# Altium integrated library Analog Devices RF IF Timing ICs and Clocks.IntLib: 168 symbols (part 14 of 18)
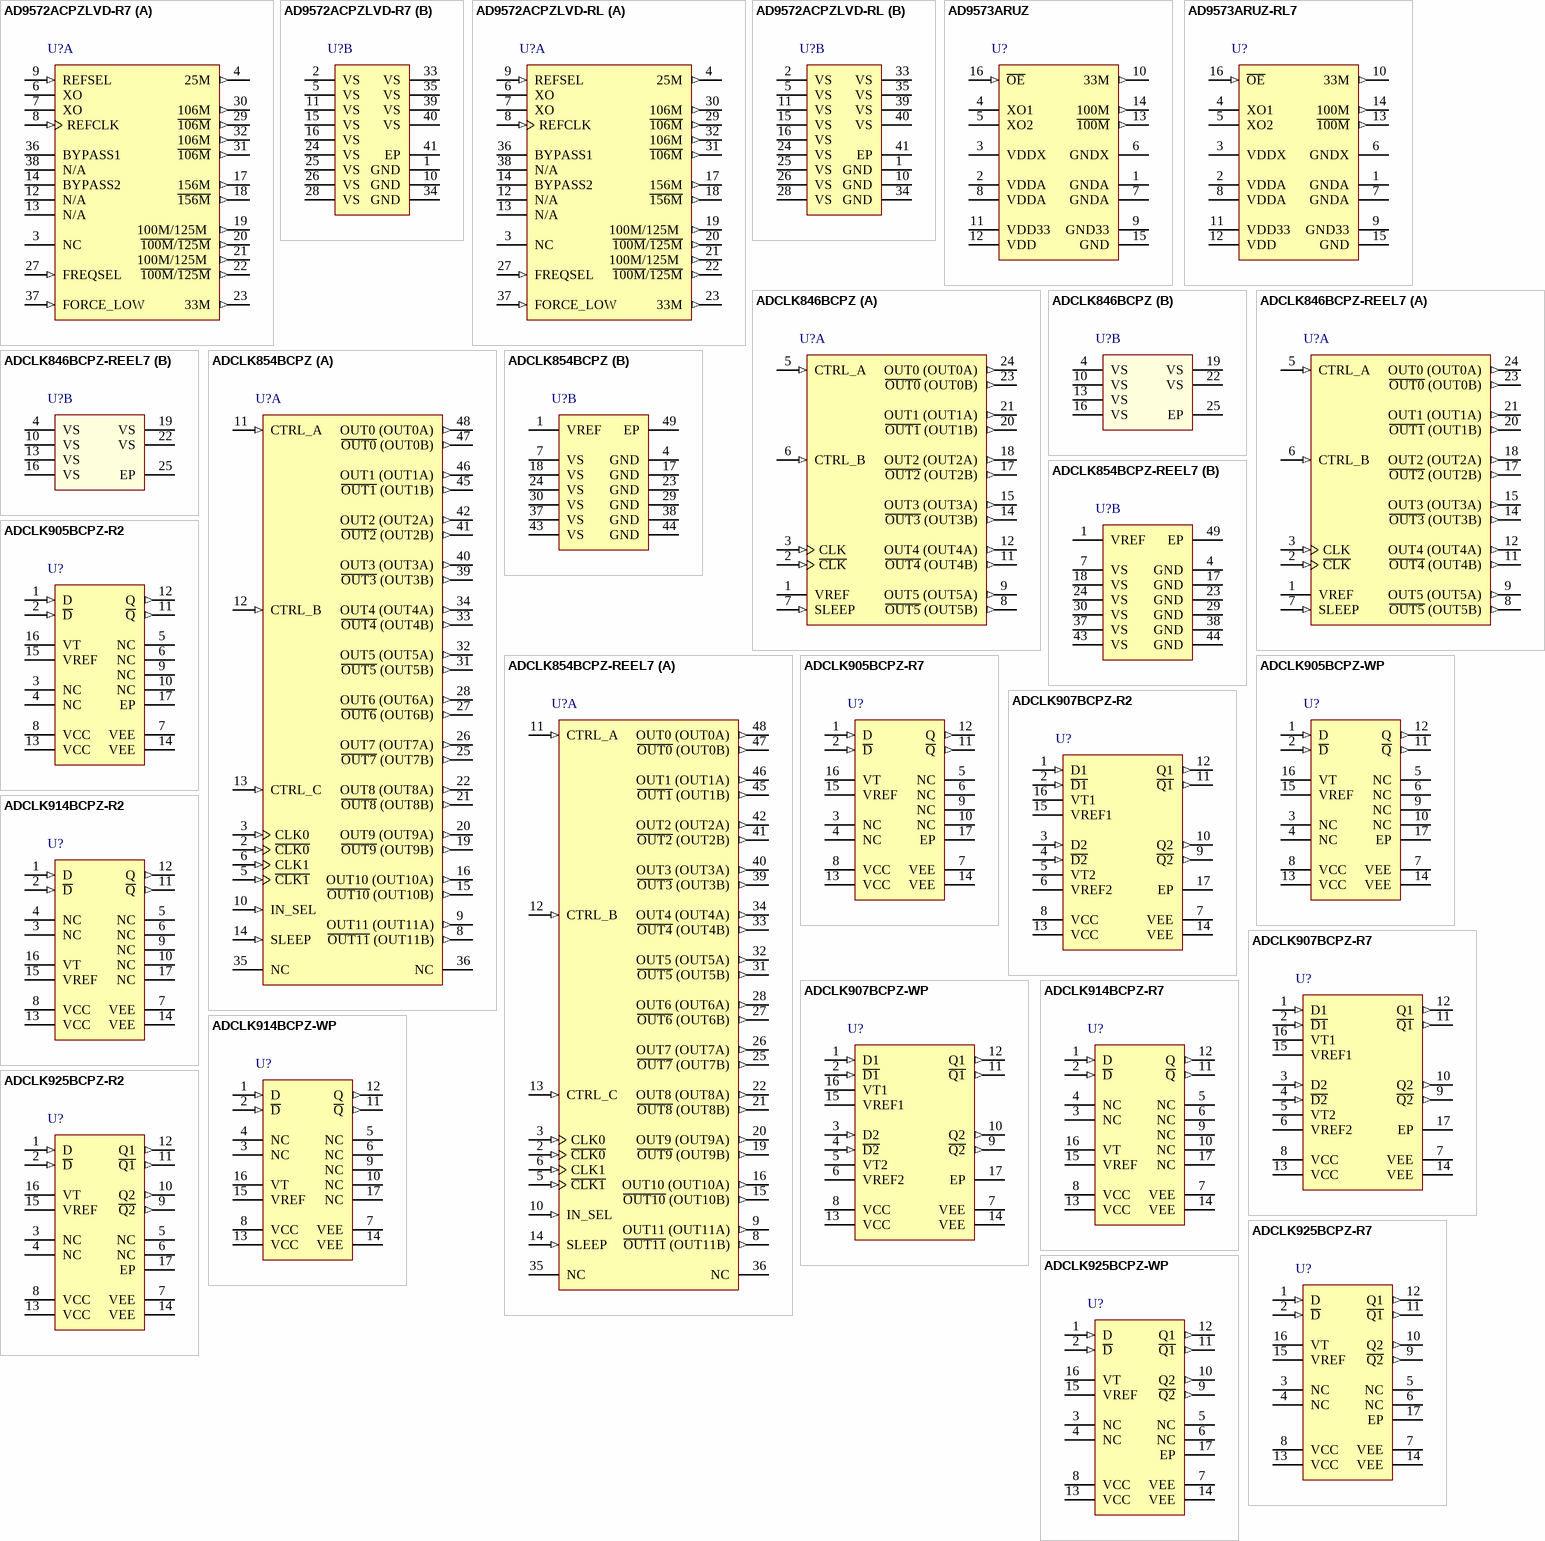
[diagram p28: symbols AD9572ACPZLVD-R7 to ADCLK925BCPZ-WP]

## AD9573ARUZ-RL7
designator U?
PCI-Express Clock Generator IC, PLL Core, Dividers, Two Outputs, RU-16, Pb-Free, 1000 Reel; +Supply Voltage (V): 3.3; Inputs: 1; Outputs: 2; On-Chip VCO or DCO: Yes; Max f-out (MHz): 100; Output Logic: LVCMOS; LVDS; DatasheetVersion: Rev. 0; PackageVersion: Nov-2002; PackageReference: RU-16; PackageDescription: 16-Lead Thin Shrink Small Outline Package [TSSOP]; Product Description: PCI-EXPRESS CLOCK GENERATOR IC, PLL CORE, DIVIDERS, TWO OUTPUTS; Dividers: 2; Code_JEDEC: MO-153AB; ComponentLink1Description: Manufacturer URL; ComponentLink1URL: www.analog.com; ComponentLink2Description: Datasheet; ComponentLink2URL: http://www.analog.com/static/imported-files/data_sheets/AD9573.pdf; ComponentLink3Description: Package Specification; ComponentLink3URL: http://www.analog.com/static/imported-files/packages/36244347913743854010197452789RU16.pdf
footprint ADI-RU-16_N (TSOP, 16-Leads, Body 5x4.4mm, Pitch 0.65mm, IPC Medium Density)
footprint ADI-RU-16_L (TSOP, 16-Leads, Body 5x4.4mm, Pitch 0.65mm, IPC High Density)
footprint ADI-RU-16_M (TSOP, 16-Leads, Body 5x4.4mm, Pitch 0.65mm, IPC Low Density)
pins: 1 GNDA (power) "Analog Ground.", 2 VDDA (power) "Analog Power Supply (3.3 V).", 3 VDDX (power) "Crystal Oscillator Power Supply.", 4 XO1 "External 25 MHz Crystal.", 5 XO2 "External 25 MHz Crystal.", 6 GNDX (power) "Crystal Oscillator Ground", 7 GNDA (power) "Analog Ground.", 8 VDDA (power) "Analog Power Supply (3.3 V).", 9 GND33 (power) "Ground for LVCMOS Output.", 10 33M (out) "LVCMOS Output at 33.33 MHz.", 11 VDD33 (power) "Power Supply for LVCMOS Output.", 12 VDD (power) "Power Supply for LVDS Output.", 13 ~{100M} (out) "Complementary LVDS Output at 100 MHz.", 14 100M (out) "LVDS Output at 100 MHz.", 15 GND (power) "Ground for LVDS Output.", 16 ~{OE} (in) "Output Enable (Active Low). Places both outputs in a high impedance state when high. This pin has a 50 K ohm internal pull-down resistor."

## ADCLK846BCPZ
designator U?
1.8 V, 6 LVDS/12 CMOS Outputs Low Power Clock Fanout Buffer, CP-24-2, Pb-Free, 490 Tray; Product Description: LVDS clock fanout buffer; +Supply Voltage (V): 1.8; Inputs: 1; Outputs: 6; On-Chip VCO or DCO: No; Max f-out (MHz): 1200; Output Logic: CMOS; LVDS; DatasheetVersion: Rev. B; PackageVersion: Jan-2005; PackageReference: CP-24-2; PackageDescription: 24-Lead Lead Frame Chip Scale Package [LFCSP_VQ]; Code_JEDEC: MO-220-VGGD-2; ComponentLink1Description: Manufacturer URL; ComponentLink1URL: www.analog.com; ComponentLink2Description: Datasheet; ComponentLink2URL: http://www.analog.com/static/imported-files/data_sheets/ADCLK846.pdf; ComponentLink3Description: Package Specification; ComponentLink3URL: http://www.analog.com/static/imported-files/packages/588305704543880784658541CP_24_2.pdf
footprint ADI-CP-24-2_N (QFN, 24-Leads, Body 4x4mm, Pitch 0.5mm, Thermal Pad 2.3x2.3mm, IPC Medium Density)
footprint ADI-CP-24-2_L (QFN, 24-Leads, Body 4x4mm, Pitch 0.5mm, Thermal Pad 2.3x2.3mm, IPC High Density)
footprint ADI-CP-24-2_M (QFN, 24-Leads, Body 4x4mm, Pitch 0.5mm, Thermal Pad 2.3x2.3mm, IPC Low Density)
part A pins: 1 VREF (power) "Reference Voltage.", 2 ~{CLK} (in) "Clock Input (Negative).", 3 CLK (in) "Clock Input (Positive).", 5 CTRL_A (in) "CMOS Input Control for Output 1 to Output 0. (0: LVDS, 1: CMOS.)", 6 CTRL_B (in) "CMOS Input Control for Output 5 to Output 2. (0: LVDS, 1: CMOS.)", 7 SLEEP (in) "CMOS Input for Sleep Mode. (0: normal operation, 1: sleep.)", 8 ~{OUT5} (OUT5B) (out) "Complementary Side of Differential LVDS Output 5, or CMOS Output 5 on Channel B.", 9 OUT5 (OUT5A) (out) "True Side of Differential LVDS Output 5, or CMOS Output 5 on Channel A.", 11 ~{OUT4} (OUT4B) (out) "Complementary Side of Differential LVDS Output 4, or CMOS Output 4 on Channel B.", 12 OUT4 (OUT4A) (out) "True Side of Differential LVDS Output 4, or CMOS Output 4 on Channel A.", 14 ~{OUT3} (OUT3B) (out) "Complementary Side of Differential LVDS Output 3, or CMOS Output 3 on Channel B.", 15 OUT3 (OUT3A) (out) "True Side of Differential LVDS Output 3, or CMOS Output 3 on Channel A.", 17 ~{OUT2} (OUT2B) (out) "Complementary Side of Differential LVDS Output 2, or CMOS Output 2 on Channel B.", 18 OUT2 (OUT2A) (out) "True Side of Differential LVDS Output 2, or CMOS Output 2 on Channel A.", 20 ~{OUT1} (OUT1B) (out) "Complementary Side of Differential LVDS Output 1, or CMOS Output 1 on Channel B.", 21 OUT1 (OUT1A) (out) "True Side of Differential LVDS Output 1, or CMOS Output 1 on Channel A.", 23 ~{OUT0} (OUT0B) (out) "Complementary Side of Differential LVDS Output 0, or CMOS Output 0 on Channel B.", 24 OUT0 (OUT0A) (out) "True Side of Differential LVDS Output 0, or CMOS Output 0 on Channel A."
part B pins: 4 VS (power) "Supply Voltage.", 10 VS (power) "Supply Voltage.", 13 VS (power) "Supply Voltage.", 16 VS (power) "Supply Voltage.", 19 VS (power) "Supply Voltage.", 22 VS (power) "Supply Voltage.", 25 EP (power) "Exposed Paddle. The exposed paddle must be connected to ground."

## ADCLK846BCPZ-REEL7
designator U?
1.8 V, 6 LVDS/12 CMOS Outputs Low Power Clock Fanout Buffer, CP-24-2, Pb-Free, 1500 Reel; Product Description: LVDS clock fanout buffer; +Supply Voltage (V): 1.8; Inputs: 1; Outputs: 6; On-Chip VCO or DCO: No; Max f-out (MHz): 1200; Output Logic: CMOS; LVDS; DatasheetVersion: Rev. B; PackageVersion: Jan-2005; PackageReference: CP-24-2; PackageDescription: 24-Lead Lead Frame Chip Scale Package [LFCSP_VQ]; Code_JEDEC: MO-220-VGGD-2; ComponentLink1Description: Manufacturer URL; ComponentLink1URL: www.analog.com; ComponentLink2Description: Datasheet; ComponentLink2URL: http://www.analog.com/static/imported-files/data_sheets/ADCLK846.pdf; ComponentLink3Description: Package Specification; ComponentLink3URL: http://www.analog.com/static/imported-files/packages/588305704543880784658541CP_24_2.pdf
footprint ADI-CP-24-2_N (QFN, 24-Leads, Body 4x4mm, Pitch 0.5mm, Thermal Pad 2.3x2.3mm, IPC Medium Density)
footprint ADI-CP-24-2_L (QFN, 24-Leads, Body 4x4mm, Pitch 0.5mm, Thermal Pad 2.3x2.3mm, IPC High Density)
footprint ADI-CP-24-2_M (QFN, 24-Leads, Body 4x4mm, Pitch 0.5mm, Thermal Pad 2.3x2.3mm, IPC Low Density)
part A pins: 1 VREF (power) "Reference Voltage.", 2 ~{CLK} (in) "Clock Input (Negative).", 3 CLK (in) "Clock Input (Positive).", 5 CTRL_A (in) "CMOS Input Control for Output 1 to Output 0. (0: LVDS, 1: CMOS.)", 6 CTRL_B (in) "CMOS Input Control for Output 5 to Output 2. (0: LVDS, 1: CMOS.)", 7 SLEEP (in) "CMOS Input for Sleep Mode. (0: normal operation, 1: sleep.)", 8 ~{OUT5} (OUT5B) (out) "Complementary Side of Differential LVDS Output 5, or CMOS Output 5 on Channel B.", 9 OUT5 (OUT5A) (out) "True Side of Differential LVDS Output 5, or CMOS Output 5 on Channel A.", 11 ~{OUT4} (OUT4B) (out) "Complementary Side of Differential LVDS Output 4, or CMOS Output 4 on Channel B.", 12 OUT4 (OUT4A) (out) "True Side of Differential LVDS Output 4, or CMOS Output 4 on Channel A.", 14 ~{OUT3} (OUT3B) (out) "Complementary Side of Differential LVDS Output 3, or CMOS Output 3 on Channel B.", 15 OUT3 (OUT3A) (out) "True Side of Differential LVDS Output 3, or CMOS Output 3 on Channel A.", 17 ~{OUT2} (OUT2B) (out) "Complementary Side of Differential LVDS Output 2, or CMOS Output 2 on Channel B.", 18 OUT2 (OUT2A) (out) "True Side of Differential LVDS Output 2, or CMOS Output 2 on Channel A.", 20 ~{OUT1} (OUT1B) (out) "Complementary Side of Differential LVDS Output 1, or CMOS Output 1 on Channel B.", 21 OUT1 (OUT1A) (out) "True Side of Differential LVDS Output 1, or CMOS Output 1 on Channel A.", 23 ~{OUT0} (OUT0B) (out) "Complementary Side of Differential LVDS Output 0, or CMOS Output 0 on Channel B.", 24 OUT0 (OUT0A) (out) "True Side of Differential LVDS Output 0, or CMOS Output 0 on Channel A."
part B pins: 4 VS (power) "Supply Voltage.", 10 VS (power) "Supply Voltage.", 13 VS (power) "Supply Voltage.", 16 VS (power) "Supply Voltage.", 19 VS (power) "Supply Voltage.", 22 VS (power) "Supply Voltage.", 25 EP (power) "Exposed Paddle. The exposed paddle must be connected to ground."

## ADCLK854BCPZ
designator U?
1.8 V, 12-LVDS/24-CMOS Output, Low Power Clock Fanout Buffer, CP-48-6, Pb-Free, 260 Tray; Product Description: LVDS clock fanout buffer; +Supply Voltage (V): 1.8; Inputs: 2; Outputs: 12; On-Chip VCO or DCO: No; Max f-out (MHz): 1200; Output Logic: CMOS; LVDS; DatasheetVersion: Rev. 0; PackageVersion: 080508-A; PackageReference: CP-48-6; PackageDescription: 48-Lead Lead Frame Chip Scale Package [LFCSP_VQ]; Code_JEDEC: MO-220-VKKD-2; ComponentLink1Description: Manufacturer URL; ComponentLink1URL: www.analog.com; ComponentLink2Description: Datasheet; ComponentLink2URL: http://www.analog.com/static/imported-files/data_sheets/ADCLK854.pdf; ComponentLink3Description: Package Specification; ComponentLink3URL: http://www.analog.com/static/imported-files/packages/PKG_PDF/LFCSP(CP)/CP_48_6.pdf
footprint ADI-CP-48-6_N (QFN, 48-Leads, Body 7x7mm, Pitch 0.5mm, Thermal Pad 2.8x2.8mm, IPC Medium Density)
footprint ADI-CP-48-6_L (QFN, 48-Leads, Body 7x7mm, Pitch 0.5mm, Thermal Pad 2.8x2.8mm, IPC High Density)
footprint ADI-CP-48-6_M (QFN, 48-Leads, Body 7x7mm, Pitch 0.5mm, Thermal Pad 2.8x2.8mm, IPC Low Density)
part A pins: 2 ~{CLK0} (in) "Input (Negative) 0.", 3 CLK0 (in) "Input (Positive) 0.", 5 ~{CLK1} (in) "Input (Negative) 1.", 6 CLK1 (in) "Input (Positive) 1.", 8 ~{OUT11} (OUT11B) (out) "Complementary Side of Differential LVDS Output 11, or CMOS Output 11 on Channel B.", 9 OUT11 (OUT11A) (out) "True Side of Differential LVDS Output 11, or CMOS Output 11 on Channel A.", 10 IN_SEL (in) "Input Select. (0 = CLK0, C\L\K\0\; 1 = CLK1, C\L\K\1\). CMOS logic input with 200 K ohm pull-down resistor.", 11 CTRL_A (in) "Control for Output 3 to Output 0 (0 = LVDS, 1 = CMOS). CMOS logic input with 200 K ohm pull-down resistor.", 12 CTRL_B (in) "Control for Output 7 to Output 4 (0 = LVDS, 1 = CMOS). CMOS logic input with 200 K ohm pull-down resistor.", 13 CTRL_C (in) "Control for Output 11 to Output 8 (0 = LVDS, 1 = CMOS). CMOS logic input with 200 K ohm pull-down resistor.", 14 SLEEP (in) "Sleep Mode Control (0 = normal operation, 1 = sleep). CMOS logic input with 200 K ohm pull down resistor.", 15 ~{OUT10} (OUT10B) (out) "Complementary Side of Differential LVDS Output 10, or CMOS Output 10 on Channel B.", 16 OUT10 (OUT10A) (out) "True Side of Differential LVDS Output 10, or CMOS Output 10 on Channel A.", 19 ~{OUT9} (OUT9B) (out) "Complementary Side of Differential LVDS Output 9, or CMOS Output 9 on Channel B.", 20 OUT9 (OUT9A) (out) "True Side of Differential LVDS Output 9, or CMOS Output 9 on Channel A.", 21 ~{OUT8} (OUT8B) (out) "Complementary Side of Differential LVDS Output 8, or CMOS Output 8 on Channel B.", 22 OUT8 (OUT8A) (out) "True Side of Differential LVDS Output 8, or CMOS Output 8 on Channel A.", 25 ~{OUT7} (OUT7B) (out) "Complementary Side of Differential LVDS Output 7, or CMOS Output 7 on Channel B.", 26 OUT7 (OUT7A) (out) "True Side of Differential LVDS Output 7, or CMOS Output 7 on Channel A.", 27 ~{OUT6} (OUT6B) (out) "Complementary Side of Differential LVDS Output 6, or CMOS Output 6 on Channel B.", 28 OUT6 (OUT6A) (out) "True Side of Differential LVDS Output 6, or CMOS Output 6 on Channel A", 31 ~{OUT5} (OUT5B) (out) "Complementary Side of Differential LVDS Output 5, or CMOS Output 5 on Channel B.", 32 OUT5 (OUT5A) (out) "True Side of Differential LVDS Output 5, or CMOS Output 5 on Channel A.", 33 ~{OUT4} (OUT4B) (out) "Complementary Side of Differential LVDS Output 4, or CMOS Output 4 on Channel B.", 34 OUT4 (OUT4A) (out) "True Side of Differential LVDS Output 4, or CMOS Output 4 on Channel A.", 35 NC "No Connect.", 36 NC "No Connect.", 39 ~{OUT3} (OUT3B) (out) "Complementary Side of Differential LVDS Output 3, or CMOS Output 3 on Channel B.", 40 OUT3 (OUT3A) (out) "True Side of Differential LVDS Output 3, or CMOS Output 3 on Channel A.", 41 ~{OUT2} (OUT2B) (out) "Complementary Side of Differential LVDS Output 2, or CMOS Output 2 on Channel B.", 42 OUT2 (OUT2A) (out) "True Side of Differential LVDS Output 2, or CMOS Output 2 on Channel A.", 45 ~{OUT1} (OUT1B) (out) "Complementary Side of Differential LVDS Output 1, or CMOS Output 1 on Channel B.", 46 OUT1 (OUT1A) (out) "True Side of Differential LVDS Output 1, or CMOS Output 1 on Channel A.", 47 ~{OUT0} (OUT0B) (out) "Complementary Side of Differential LVDS Output 0, or CMOS Output 0 on Channel B.", 48 OUT0 (OUT0A) (out) "True Side of Differential LVDS Output 0, or CMOS Output 0 on Channel A."
part B pins: 1 VREF (power) "Reference Voltage.", 4 GND (power) "Ground Pin.", 7 VS (power) "Supply Voltage.", 17 GND (power) "Ground Pin.", 18 VS (power) "Supply Voltage.", 23 GND (power) "Ground Pin.", 24 VS (power) "Supply Voltage.", 29 GND (power) "Ground Pin.", 30 VS (power) "Supply Voltage.", 37 VS (power) "Supply Voltage.", 38 GND (power) "Ground Pin.", 43 VS (power) "Supply Voltage.", 44 GND (power) "Ground Pin.", 49 EP (power) "Exposed Paddle. The exposed paddle must be connected to GND."

## ADCLK854BCPZ-REEL7
designator U?
1.8 V, 12-LVDS/24-CMOS Output, Low Power Clock Fanout Buffer, CP-48-6, Pb-Free, 750 Reel; Product Description: LVDS clock fanout buffer; +Supply Voltage (V): 1.8; Inputs: 2; Outputs: 12; On-Chip VCO or DCO: No; Max f-out (MHz): 1200; Output Logic: CMOS; LVDS; DatasheetVersion: Rev. 0; PackageVersion: 080508-A; PackageReference: CP-48-6; PackageDescription: 48-Lead Lead Frame Chip Scale Package [LFCSP_VQ]; Code_JEDEC: MO-220-VKKD-2; ComponentLink1Description: Manufacturer URL; ComponentLink1URL: www.analog.com; ComponentLink2Description: Datasheet; ComponentLink2URL: http://www.analog.com/static/imported-files/data_sheets/ADCLK854.pdf; ComponentLink3Description: Package Specification; ComponentLink3URL: http://www.analog.com/static/imported-files/packages/PKG_PDF/LFCSP(CP)/CP_48_6.pdf
footprint ADI-CP-48-6_N (QFN, 48-Leads, Body 7x7mm, Pitch 0.5mm, Thermal Pad 2.8x2.8mm, IPC Medium Density)
footprint ADI-CP-48-6_L (QFN, 48-Leads, Body 7x7mm, Pitch 0.5mm, Thermal Pad 2.8x2.8mm, IPC High Density)
footprint ADI-CP-48-6_M (QFN, 48-Leads, Body 7x7mm, Pitch 0.5mm, Thermal Pad 2.8x2.8mm, IPC Low Density)
part A pins: 2 ~{CLK0} (in) "Input (Negative) 0.", 3 CLK0 (in) "Input (Positive) 0.", 5 ~{CLK1} (in) "Input (Negative) 1.", 6 CLK1 (in) "Input (Positive) 1.", 8 ~{OUT11} (OUT11B) (out) "Complementary Side of Differential LVDS Output 11, or CMOS Output 11 on Channel B.", 9 OUT11 (OUT11A) (out) "True Side of Differential LVDS Output 11, or CMOS Output 11 on Channel A.", 10 IN_SEL (in) "Input Select. (0 = CLK0, C\L\K\0\; 1 = CLK1, C\L\K\1\). CMOS logic input with 200 K ohm pull-down resistor.", 11 CTRL_A (in) "Control for Output 3 to Output 0 (0 = LVDS, 1 = CMOS). CMOS logic input with 200 K ohm pull-down resistor.", 12 CTRL_B (in) "Control for Output 7 to Output 4 (0 = LVDS, 1 = CMOS). CMOS logic input with 200 K ohm pull-down resistor.", 13 CTRL_C (in) "Control for Output 11 to Output 8 (0 = LVDS, 1 = CMOS). CMOS logic input with 200 K ohm pull-down resistor.", 14 SLEEP (in) "Sleep Mode Control (0 = normal operation, 1 = sleep). CMOS logic input with 200 K ohm pull down resistor.", 15 ~{OUT10} (OUT10B) (out) "Complementary Side of Differential LVDS Output 10, or CMOS Output 10 on Channel B.", 16 OUT10 (OUT10A) (out) "True Side of Differential LVDS Output 10, or CMOS Output 10 on Channel A.", 19 ~{OUT9} (OUT9B) (out) "Complementary Side of Differential LVDS Output 9, or CMOS Output 9 on Channel B.", 20 OUT9 (OUT9A) (out) "True Side of Differential LVDS Output 9, or CMOS Output 9 on Channel A.", 21 ~{OUT8} (OUT8B) (out) "Complementary Side of Differential LVDS Output 8, or CMOS Output 8 on Channel B.", 22 OUT8 (OUT8A) (out) "True Side of Differential LVDS Output 8, or CMOS Output 8 on Channel A.", 25 ~{OUT7} (OUT7B) (out) "Complementary Side of Differential LVDS Output 7, or CMOS Output 7 on Channel B.", 26 OUT7 (OUT7A) (out) "True Side of Differential LVDS Output 7, or CMOS Output 7 on Channel A.", 27 ~{OUT6} (OUT6B) (out) "Complementary Side of Differential LVDS Output 6, or CMOS Output 6 on Channel B.", 28 OUT6 (OUT6A) (out) "True Side of Differential LVDS Output 6, or CMOS Output 6 on Channel A", 31 ~{OUT5} (OUT5B) (out) "Complementary Side of Differential LVDS Output 5, or CMOS Output 5 on Channel B.", 32 OUT5 (OUT5A) (out) "True Side of Differential LVDS Output 5, or CMOS Output 5 on Channel A.", 33 ~{OUT4} (OUT4B) (out) "Complementary Side of Differential LVDS Output 4, or CMOS Output 4 on Channel B.", 34 OUT4 (OUT4A) (out) "True Side of Differential LVDS Output 4, or CMOS Output 4 on Channel A.", 35 NC "No Connect.", 36 NC "No Connect.", 39 ~{OUT3} (OUT3B) (out) "Complementary Side of Differential LVDS Output 3, or CMOS Output 3 on Channel B.", 40 OUT3 (OUT3A) (out) "True Side of Differential LVDS Output 3, or CMOS Output 3 on Channel A.", 41 ~{OUT2} (OUT2B) (out) "Complementary Side of Differential LVDS Output 2, or CMOS Output 2 on Channel B.", 42 OUT2 (OUT2A) (out) "True Side of Differential LVDS Output 2, or CMOS Output 2 on Channel A.", 45 ~{OUT1} (OUT1B) (out) "Complementary Side of Differential LVDS Output 1, or CMOS Output 1 on Channel B.", 46 OUT1 (OUT1A) (out) "True Side of Differential LVDS Output 1, or CMOS Output 1 on Channel A.", 47 ~{OUT0} (OUT0B) (out) "Complementary Side of Differential LVDS Output 0, or CMOS Output 0 on Channel B.", 48 OUT0 (OUT0A) (out) "True Side of Differential LVDS Output 0, or CMOS Output 0 on Channel A."
part B pins: 1 VREF (power) "Reference Voltage.", 4 GND (power) "Ground Pin.", 7 VS (power) "Supply Voltage.", 17 GND (power) "Ground Pin.", 18 VS (power) "Supply Voltage.", 23 GND (power) "Ground Pin.", 24 VS (power) "Supply Voltage.", 29 GND (power) "Ground Pin.", 30 VS (power) "Supply Voltage.", 37 VS (power) "Supply Voltage.", 38 GND (power) "Ground Pin.", 43 VS (power) "Supply Voltage.", 44 GND (power) "Ground Pin.", 49 EP (power) "Exposed Paddle. The exposed paddle must be connected to GND."

## ADCLK905BCPZ-R2
designator U?
Ultrafast SiGe ECL Clock/Data Buffers, CP-16-3, Pb-Free, 250 Reel; Product Description: Clock Buffer; +Supply Voltage (V): 3.3; Inputs: 1; On-Chip VCO or DCO: No; Max f-out (MHz): 6000; Output Logic: ECL; LVPECL; PECL; DatasheetVersion: Rev. 0; PackageVersion: Jan-2005; PackageReference: CP-16-3; PackageDescription: 16-Lead Lead Frame Chip Scale Package [LFCSP_VQ]; Outputs: 1; Code_JEDEC: MO-220-VEED-2; ComponentLink1Description: Manufacturer URL; ComponentLink1URL: www.analog.com; ComponentLink2Description: Datasheet; ComponentLink2URL: http://www.analog.com/static/imported-files/data_sheets/ADCLK905_907_925.pdf; ComponentLink3Description: Package Specification; ComponentLink3URL: http://www.analog.com/static/imported-files/packages/PKG_PDF/LFCSP(CP)/CP_16_3.pdf
footprint ADI-CP-16-3_N (QFN, 16-Leads, Body 3x3mm, Pitch 0.5mm, Thermal Pad 1.5x1.5mm, IPC Medium Density)
footprint ADI-CP-16-3_L (QFN, 16-Leads, Body 3x3mm, Pitch 0.5mm, Thermal Pad 1.5x1.5mm, IPC High Density)
footprint ADI-CP-16-3_M (QFN, 16-Leads, Body 3x3mm, Pitch 0.5mm, Thermal Pad 1.5x1.5mm, IPC Low Density)
pins: 1 D (in) "Noninverting Input.", 2 ~{D} (in) "Inverting Input.", 3 NC "No Connect. No physical connection to the die.", 4 NC "No Connect. No physical connection to the die.", 5 NC "No Connect. No physical connection to the die.", 6 NC "No Connect. No physical connection to the die.", 7 VEE (power) "Negative Supply Voltage.", 8 VCC (power) "Positive Supply Voltage.", 9 NC "No Connect. No physical connection to the die.", 10 NC "No Connect. No physical connection to the die.", 11 ~{Q} (out) "Inverting Output.", 12 Q (out) "Noninverting Output.", 13 VCC (power) "Positive Supply Voltage.", 14 VEE (power) "Negative Supply Voltage.", 15 VREF (power) "Reference Voltage. Reference voltage for biasing ac-coupled inputs.", 16 VT "Center Tap. Center tap of 100  ohm input resistor.", 17 EP "No Connect. The metallic back surface of the package is not electrically connected to any part of the circuit. It can be left floating for optimal electrical isolation between the package handle and the substrate of the die. [see datasheet]"

## ADCLK905BCPZ-R7
designator U?
Ultrafast SiGe ECL Clock/Data Buffers, CP-16-3, Pb-Free, 1500 Reel; Product Description: Clock Buffer; +Supply Voltage (V): 3.3; Inputs: 1; On-Chip VCO or DCO: No; Max f-out (MHz): 6000; Output Logic: ECL; LVPECL; PECL; DatasheetVersion: Rev. 0; PackageVersion: Jan-2005; PackageReference: CP-16-3; PackageDescription: 16-Lead Lead Frame Chip Scale Package [LFCSP_VQ]; Outputs: 1; Code_JEDEC: MO-220-VEED-2; ComponentLink1Description: Manufacturer URL; ComponentLink1URL: www.analog.com; ComponentLink2Description: Datasheet; ComponentLink2URL: http://www.analog.com/static/imported-files/data_sheets/ADCLK905_907_925.pdf; ComponentLink3Description: Package Specification; ComponentLink3URL: http://www.analog.com/static/imported-files/packages/PKG_PDF/LFCSP(CP)/CP_16_3.pdf
footprint ADI-CP-16-3_N (QFN, 16-Leads, Body 3x3mm, Pitch 0.5mm, Thermal Pad 1.5x1.5mm, IPC Medium Density)
footprint ADI-CP-16-3_L (QFN, 16-Leads, Body 3x3mm, Pitch 0.5mm, Thermal Pad 1.5x1.5mm, IPC High Density)
footprint ADI-CP-16-3_M (QFN, 16-Leads, Body 3x3mm, Pitch 0.5mm, Thermal Pad 1.5x1.5mm, IPC Low Density)
pins: 1 D (in) "Noninverting Input.", 2 ~{D} (in) "Inverting Input.", 3 NC "No Connect. No physical connection to the die.", 4 NC "No Connect. No physical connection to the die.", 5 NC "No Connect. No physical connection to the die.", 6 NC "No Connect. No physical connection to the die.", 7 VEE (power) "Negative Supply Voltage.", 8 VCC (power) "Positive Supply Voltage.", 9 NC "No Connect. No physical connection to the die.", 10 NC "No Connect. No physical connection to the die.", 11 ~{Q} (out) "Inverting Output.", 12 Q (out) "Noninverting Output.", 13 VCC (power) "Positive Supply Voltage.", 14 VEE (power) "Negative Supply Voltage.", 15 VREF (power) "Reference Voltage. Reference voltage for biasing ac-coupled inputs.", 16 VT "Center Tap. Center tap of 100  ohm input resistor.", 17 EP "No Connect. The metallic back surface of the package is not electrically connected to any part of the circuit. It can be left floating for optimal electrical isolation between the package handle and the substrate of the die. [see datasheet]"

## ADCLK905BCPZ-WP
designator U?
Ultrafast SiGe ECL Clock/Data Buffers, CP-16-3, Pb-Free, 50 Tray; Product Description: Clock Buffer; +Supply Voltage (V): 3.3; Inputs: 1; On-Chip VCO or DCO: No; Max f-out (MHz): 6000; Output Logic: ECL; LVPECL; PECL; DatasheetVersion: Rev. 0; PackageVersion: Jan-2005; PackageReference: CP-16-3; PackageDescription: 16-Lead Lead Frame Chip Scale Package [LFCSP_VQ]; Outputs: 1; Code_JEDEC: MO-220-VEED-2; ComponentLink1Description: Manufacturer URL; ComponentLink1URL: www.analog.com; ComponentLink2Description: Datasheet; ComponentLink2URL: http://www.analog.com/static/imported-files/data_sheets/ADCLK905_907_925.pdf; ComponentLink3Description: Package Specification; ComponentLink3URL: http://www.analog.com/static/imported-files/packages/PKG_PDF/LFCSP(CP)/CP_16_3.pdf
footprint ADI-CP-16-3_N (QFN, 16-Leads, Body 3x3mm, Pitch 0.5mm, Thermal Pad 1.5x1.5mm, IPC Medium Density)
footprint ADI-CP-16-3_L (QFN, 16-Leads, Body 3x3mm, Pitch 0.5mm, Thermal Pad 1.5x1.5mm, IPC High Density)
footprint ADI-CP-16-3_M (QFN, 16-Leads, Body 3x3mm, Pitch 0.5mm, Thermal Pad 1.5x1.5mm, IPC Low Density)
pins: 1 D (in) "Noninverting Input.", 2 ~{D} (in) "Inverting Input.", 3 NC "No Connect. No physical connection to the die.", 4 NC "No Connect. No physical connection to the die.", 5 NC "No Connect. No physical connection to the die.", 6 NC "No Connect. No physical connection to the die.", 7 VEE (power) "Negative Supply Voltage.", 8 VCC (power) "Positive Supply Voltage.", 9 NC "No Connect. No physical connection to the die.", 10 NC "No Connect. No physical connection to the die.", 11 ~{Q} (out) "Inverting Output.", 12 Q (out) "Noninverting Output.", 13 VCC (power) "Positive Supply Voltage.", 14 VEE (power) "Negative Supply Voltage.", 15 VREF (power) "Reference Voltage. Reference voltage for biasing ac-coupled inputs.", 16 VT "Center Tap. Center tap of 100  ohm input resistor.", 17 EP "No Connect. The metallic back surface of the package is not electrically connected to any part of the circuit. It can be left floating for optimal electrical isolation between the package handle and the substrate of the die. [see datasheet]"

## ADCLK907BCPZ-R2
designator U?
Ultrafast SiGe ECL Clock/Data Buffers, CP-16-3, Pb-Free, 250 Reel; Product Description: Clock Buffer; +Supply Voltage (V): 3.3; Inputs: 2; On-Chip VCO or DCO: No; Max f-out (MHz): 6000; Output Logic: ECL; LVPECL; PECL; DatasheetVersion: Rev. 0; PackageVersion: Jan-2005; PackageReference: CP-16-3; PackageDescription: 16-Lead Lead Frame Chip Scale Package [LFCSP_VQ]; Outputs: 2; Code_JEDEC: MO-220-VEED-2; ComponentLink1Description: Manufacturer URL; ComponentLink1URL: www.analog.com; ComponentLink2Description: Datasheet; ComponentLink2URL: http://www.analog.com/static/imported-files/data_sheets/ADCLK905_907_925.pdf; ComponentLink3Description: Package Specification; ComponentLink3URL: http://www.analog.com/static/imported-files/packages/PKG_PDF/LFCSP(CP)/CP_16_3.pdf
footprint ADI-CP-16-3_N (QFN, 16-Leads, Body 3x3mm, Pitch 0.5mm, Thermal Pad 1.5x1.5mm, IPC Medium Density)
footprint ADI-CP-16-3_L (QFN, 16-Leads, Body 3x3mm, Pitch 0.5mm, Thermal Pad 1.5x1.5mm, IPC High Density)
footprint ADI-CP-16-3_M (QFN, 16-Leads, Body 3x3mm, Pitch 0.5mm, Thermal Pad 1.5x1.5mm, IPC Low Density)
pins: 1 D1 (in) "Noninverting Input 1.", 2 ~{D1} (in) "Inverting Input 1.", 3 D2 (in) "Noninverting Input 2.", 4 ~{D2} (in) "Inverting Input 2.", 5 VT2 "Center Tap 2. Center tap of 100  ohm input resistor, Channel 2.", 6 VREF2 (power) "Reference Voltage 2. Reference voltage for biasing ac-coupled inputs, Channel 2.", 7 VEE (power) "Negative Supply Voltage.", 8 VCC (power) "Positive Supply Voltage. Pin 8 and Pin 13 are not strapped internally.", 9 ~{Q2} (out) "Inverting Output 2.", 10 Q2 (out) "Noninverting Output 2.", 11 ~{Q1} (out) "Inverting Output 1.", 12 Q1 (out) "Noninverting Output 1.", 13 VCC (power) "Positive Supply Voltage. Pin 8 and Pin 13 are not strapped internally.", 14 VEE (power) "Negative Supply Voltage.", 15 VREF1 (power) "Reference Voltage 1. Reference voltage for biasing ac-coupled inputs, Channel 1.", 16 VT1 "Center Tap 1. Center tap of 100  ohm input resistor, Channel 1.", 17 EP "No Connect. The metallic back surface of the package is not electrically connected to any part of the circuit. It can be left floating for optimal electrical isolation between the package handle and the substrate of the die. [see datasheet]"

## ADCLK907BCPZ-R7
designator U?
Ultrafast SiGe ECL Clock/Data Buffers, CP-16-3, Pb-Free, 1500 Reel; Product Description: Clock Buffer; +Supply Voltage (V): 3.3; Inputs: 2; On-Chip VCO or DCO: No; Max f-out (MHz): 6000; Output Logic: ECL; LVPECL; PECL; DatasheetVersion: Rev. 0; PackageVersion: Jan-2005; PackageReference: CP-16-3; PackageDescription: 16-Lead Lead Frame Chip Scale Package [LFCSP_VQ]; Outputs: 2; Code_JEDEC: MO-220-VEED-2; ComponentLink1Description: Manufacturer URL; ComponentLink1URL: www.analog.com; ComponentLink2Description: Datasheet; ComponentLink2URL: http://www.analog.com/static/imported-files/data_sheets/ADCLK905_907_925.pdf; ComponentLink3Description: Package Specification; ComponentLink3URL: http://www.analog.com/static/imported-files/packages/PKG_PDF/LFCSP(CP)/CP_16_3.pdf
footprint ADI-CP-16-3_N (QFN, 16-Leads, Body 3x3mm, Pitch 0.5mm, Thermal Pad 1.5x1.5mm, IPC Medium Density)
footprint ADI-CP-16-3_L (QFN, 16-Leads, Body 3x3mm, Pitch 0.5mm, Thermal Pad 1.5x1.5mm, IPC High Density)
footprint ADI-CP-16-3_M (QFN, 16-Leads, Body 3x3mm, Pitch 0.5mm, Thermal Pad 1.5x1.5mm, IPC Low Density)
pins: 1 D1 (in) "Noninverting Input 1.", 2 ~{D1} (in) "Inverting Input 1.", 3 D2 (in) "Noninverting Input 2.", 4 ~{D2} (in) "Inverting Input 2.", 5 VT2 "Center Tap 2. Center tap of 100  ohm input resistor, Channel 2.", 6 VREF2 (power) "Reference Voltage 2. Reference voltage for biasing ac-coupled inputs, Channel 2.", 7 VEE (power) "Negative Supply Voltage.", 8 VCC (power) "Positive Supply Voltage. Pin 8 and Pin 13 are not strapped internally.", 9 ~{Q2} (out) "Inverting Output 2.", 10 Q2 (out) "Noninverting Output 2.", 11 ~{Q1} (out) "Inverting Output 1.", 12 Q1 (out) "Noninverting Output 1.", 13 VCC (power) "Positive Supply Voltage. Pin 8 and Pin 13 are not strapped internally.", 14 VEE (power) "Negative Supply Voltage.", 15 VREF1 (power) "Reference Voltage 1. Reference voltage for biasing ac-coupled inputs, Channel 1.", 16 VT1 "Center Tap 1. Center tap of 100  ohm input resistor, Channel 1.", 17 EP "No Connect. The metallic back surface of the package is not electrically connected to any part of the circuit. It can be left floating for optimal electrical isolation between the package handle and the substrate of the die. [see datasheet]"

## ADCLK907BCPZ-WP
designator U?
Ultrafast SiGe ECL Clock/Data Buffers, CP-16-3, Pb-Free, 50 Tray; Product Description: Clock Buffer; +Supply Voltage (V): 3.3; Inputs: 2; On-Chip VCO or DCO: No; Max f-out (MHz): 6000; Output Logic: ECL; LVPECL; PECL; DatasheetVersion: Rev. 0; PackageVersion: Jan-2005; PackageReference: CP-16-3; PackageDescription: 16-Lead Lead Frame Chip Scale Package [LFCSP_VQ]; Outputs: 2; Code_JEDEC: MO-220-VEED-2; ComponentLink1Description: Manufacturer URL; ComponentLink1URL: www.analog.com; ComponentLink2Description: Datasheet; ComponentLink2URL: http://www.analog.com/static/imported-files/data_sheets/ADCLK905_907_925.pdf; ComponentLink3Description: Package Specification; ComponentLink3URL: http://www.analog.com/static/imported-files/packages/PKG_PDF/LFCSP(CP)/CP_16_3.pdf
footprint ADI-CP-16-3_N (QFN, 16-Leads, Body 3x3mm, Pitch 0.5mm, Thermal Pad 1.5x1.5mm, IPC Medium Density)
footprint ADI-CP-16-3_L (QFN, 16-Leads, Body 3x3mm, Pitch 0.5mm, Thermal Pad 1.5x1.5mm, IPC High Density)
footprint ADI-CP-16-3_M (QFN, 16-Leads, Body 3x3mm, Pitch 0.5mm, Thermal Pad 1.5x1.5mm, IPC Low Density)
pins: 1 D1 (in) "Noninverting Input 1.", 2 ~{D1} (in) "Inverting Input 1.", 3 D2 (in) "Noninverting Input 2.", 4 ~{D2} (in) "Inverting Input 2.", 5 VT2 "Center Tap 2. Center tap of 100  ohm input resistor, Channel 2.", 6 VREF2 (power) "Reference Voltage 2. Reference voltage for biasing ac-coupled inputs, Channel 2.", 7 VEE (power) "Negative Supply Voltage.", 8 VCC (power) "Positive Supply Voltage. Pin 8 and Pin 13 are not strapped internally.", 9 ~{Q2} (out) "Inverting Output 2.", 10 Q2 (out) "Noninverting Output 2.", 11 ~{Q1} (out) "Inverting Output 1.", 12 Q1 (out) "Noninverting Output 1.", 13 VCC (power) "Positive Supply Voltage. Pin 8 and Pin 13 are not strapped internally.", 14 VEE (power) "Negative Supply Voltage.", 15 VREF1 (power) "Reference Voltage 1. Reference voltage for biasing ac-coupled inputs, Channel 1.", 16 VT1 "Center Tap 1. Center tap of 100  ohm input resistor, Channel 1.", 17 EP "No Connect. The metallic back surface of the package is not electrically connected to any part of the circuit. It can be left floating for optimal electrical isolation between the package handle and the substrate of the die. [see datasheet]"

## ADCLK914BCPZ-R2
designator U?
Ultrafast, SiGe, Open-Collector HVDS Clock/Data Buffer, CP-16-3, Pb-Free, 250 Reel; Inputs: 1; On-Chip VCO or DCO: No; DatasheetVersion: Rev. A; PackageVersion: Jan-2005; PackageReference: CP-16-3; PackageDescription: 16-Lead Lead Frame Chip Scale Package [LFCSP_VQ]; Outputs: 1; Output Logic: HVDS; Code_JEDEC: MO-220-VEED-2; ComponentLink1Description: Manufacturer URL; ComponentLink1URL: www.analog.com; ComponentLink2Description: Datasheet; ComponentLink2URL: http://www.analog.com/static/imported-files/data_sheets/ADCLK914.pdf; ComponentLink3Description: Package Specification; ComponentLink3URL: http://www.analog.com/static/imported-files/packages/PKG_PDF/LFCSP(CP)/CP_16_3.pdf
footprint ADI-CP-16-3_N (QFN, 16-Leads, Body 3x3mm, Pitch 0.5mm, Thermal Pad 1.5x1.5mm, IPC Medium Density)
footprint ADI-CP-16-3_L (QFN, 16-Leads, Body 3x3mm, Pitch 0.5mm, Thermal Pad 1.5x1.5mm, IPC High Density)
footprint ADI-CP-16-3_M (QFN, 16-Leads, Body 3x3mm, Pitch 0.5mm, Thermal Pad 1.5x1.5mm, IPC Low Density)
pins: 1 D (in) "Noninverting Input.", 2 ~{D} (in) "Inverting Input.", 3 NC "No Connect. No physical connection to the die.", 4 NC "No Connect. No physical connection to the die.", 5 NC "No Connect. No physical connection to the die.", 6 NC "No Connect. No physical connection to the die.", 7 VEE (power) "Negative Supply Voltage.", 8 VCC (power) "Positive Supply Voltage.", 9 NC "No Connect. No physical connection to the die.", 10 NC "No Connect. No physical connection to the die.", 11 ~{Q} (out) "Inverting Output.", 12 Q (out) "Noninverting Output.", 13 VCC (power) "Positive Supply Voltage.", 14 VEE (power) "Negative Supply Voltage.", 15 VREF (power) "Reference Voltage. Reference voltage for biasing ac-coupled inputs.", 16 VT "Center Tap. Center tap of 100  ohm input resistor.", 17 NC "No Connect. The metallic back surface of the package is not electrically connected to any part of the circuit. It can be left floating for optimal electrical isolation between the package handle and the substrate of the die. It can also be soldered to gr"

## ADCLK914BCPZ-R7
designator U?
Ultrafast, SiGe, Open-Collector HVDS Clock/Data Buffer, CP-16-3, Pb-Free, 1500 Reel; Inputs: 1; On-Chip VCO or DCO: No; DatasheetVersion: Rev. A; PackageVersion: Jan-2005; PackageReference: CP-16-3; PackageDescription: 16-Lead Lead Frame Chip Scale Package [LFCSP_VQ]; Outputs: 1; Output Logic: HVDS; Code_JEDEC: MO-220-VEED-2; ComponentLink1Description: Manufacturer URL; ComponentLink1URL: www.analog.com; ComponentLink2Description: Datasheet; ComponentLink2URL: http://www.analog.com/static/imported-files/data_sheets/ADCLK914.pdf; ComponentLink3Description: Package Specification; ComponentLink3URL: http://www.analog.com/static/imported-files/packages/PKG_PDF/LFCSP(CP)/CP_16_3.pdf
footprint ADI-CP-16-3_N (QFN, 16-Leads, Body 3x3mm, Pitch 0.5mm, Thermal Pad 1.5x1.5mm, IPC Medium Density)
footprint ADI-CP-16-3_L (QFN, 16-Leads, Body 3x3mm, Pitch 0.5mm, Thermal Pad 1.5x1.5mm, IPC High Density)
footprint ADI-CP-16-3_M (QFN, 16-Leads, Body 3x3mm, Pitch 0.5mm, Thermal Pad 1.5x1.5mm, IPC Low Density)
pins: 1 D (in) "Noninverting Input.", 2 ~{D} (in) "Inverting Input.", 3 NC "No Connect. No physical connection to the die.", 4 NC "No Connect. No physical connection to the die.", 5 NC "No Connect. No physical connection to the die.", 6 NC "No Connect. No physical connection to the die.", 7 VEE (power) "Negative Supply Voltage.", 8 VCC (power) "Positive Supply Voltage.", 9 NC "No Connect. No physical connection to the die.", 10 NC "No Connect. No physical connection to the die.", 11 ~{Q} (out) "Inverting Output.", 12 Q (out) "Noninverting Output.", 13 VCC (power) "Positive Supply Voltage.", 14 VEE (power) "Negative Supply Voltage.", 15 VREF (power) "Reference Voltage. Reference voltage for biasing ac-coupled inputs.", 16 VT "Center Tap. Center tap of 100  ohm input resistor.", 17 NC "No Connect. The metallic back surface of the package is not electrically connected to any part of the circuit. It can be left floating for optimal electrical isolation between the package handle and the substrate of the die. It can also be soldered to gr"

## ADCLK914BCPZ-WP
designator U?
Ultrafast, SiGe, Open-Collector HVDS Clock/Data Buffer, CP-16-3, Pb-Free, 50 Tray; Inputs: 1; On-Chip VCO or DCO: No; DatasheetVersion: Rev. A; PackageVersion: Jan-2005; PackageReference: CP-16-3; PackageDescription: 16-Lead Lead Frame Chip Scale Package [LFCSP_VQ]; Outputs: 1; Output Logic: HVDS; Code_JEDEC: MO-220-VEED-2; ComponentLink1Description: Manufacturer URL; ComponentLink1URL: www.analog.com; ComponentLink2Description: Datasheet; ComponentLink2URL: http://www.analog.com/static/imported-files/data_sheets/ADCLK914.pdf; ComponentLink3Description: Package Specification; ComponentLink3URL: http://www.analog.com/static/imported-files/packages/PKG_PDF/LFCSP(CP)/CP_16_3.pdf
footprint ADI-CP-16-3_N (QFN, 16-Leads, Body 3x3mm, Pitch 0.5mm, Thermal Pad 1.5x1.5mm, IPC Medium Density)
footprint ADI-CP-16-3_L (QFN, 16-Leads, Body 3x3mm, Pitch 0.5mm, Thermal Pad 1.5x1.5mm, IPC High Density)
footprint ADI-CP-16-3_M (QFN, 16-Leads, Body 3x3mm, Pitch 0.5mm, Thermal Pad 1.5x1.5mm, IPC Low Density)
pins: 1 D (in) "Noninverting Input.", 2 ~{D} (in) "Inverting Input.", 3 NC "No Connect. No physical connection to the die.", 4 NC "No Connect. No physical connection to the die.", 5 NC "No Connect. No physical connection to the die.", 6 NC "No Connect. No physical connection to the die.", 7 VEE (power) "Negative Supply Voltage.", 8 VCC (power) "Positive Supply Voltage.", 9 NC "No Connect. No physical connection to the die.", 10 NC "No Connect. No physical connection to the die.", 11 ~{Q} (out) "Inverting Output.", 12 Q (out) "Noninverting Output.", 13 VCC (power) "Positive Supply Voltage.", 14 VEE (power) "Negative Supply Voltage.", 15 VREF (power) "Reference Voltage. Reference voltage for biasing ac-coupled inputs.", 16 VT "Center Tap. Center tap of 100  ohm input resistor.", 17 NC "No Connect. The metallic back surface of the package is not electrically connected to any part of the circuit. It can be left floating for optimal electrical isolation between the package handle and the substrate of the die. It can also be soldered to gr"

## ADCLK925BCPZ-R2
designator U?
Ultrafast SiGe ECL Clock/Data Buffers, CP-16-3, Pb-Free, 250 Reel; Product Description: Clock Buffer; +Supply Voltage (V): 3.3; Inputs: 1; Outputs: 2; On-Chip VCO or DCO: No; Max f-out (MHz): 6000; Output Logic: ECL; LVPECL; PECL; DatasheetVersion: Rev. 0; PackageVersion: Jan-2005; PackageReference: CP-16-3; PackageDescription: 16-Lead Lead Frame Chip Scale Package [LFCSP_VQ]; Code_JEDEC: MO-220-VEED-2; ComponentLink1Description: Manufacturer URL; ComponentLink1URL: www.analog.com; ComponentLink2Description: Datasheet; ComponentLink2URL: http://www.analog.com/static/imported-files/data_sheets/ADCLK905_907_925.pdf; ComponentLink3Description: Package Specification; ComponentLink3URL: http://www.analog.com/static/imported-files/packages/PKG_PDF/LFCSP(CP)/CP_16_3.pdf
footprint ADI-CP-16-3_N (QFN, 16-Leads, Body 3x3mm, Pitch 0.5mm, Thermal Pad 1.5x1.5mm, IPC Medium Density)
footprint ADI-CP-16-3_L (QFN, 16-Leads, Body 3x3mm, Pitch 0.5mm, Thermal Pad 1.5x1.5mm, IPC High Density)
footprint ADI-CP-16-3_M (QFN, 16-Leads, Body 3x3mm, Pitch 0.5mm, Thermal Pad 1.5x1.5mm, IPC Low Density)
pins: 1 D (in) "Noninverting Input.", 2 ~{D} (in) "Inverting Input.", 3 NC "No Connect. No physical connection to the die.", 4 NC "No Connect. No physical connection to the die.", 5 NC "No Connect. No physical connection to the die.", 6 NC "No Connect. No physical connection to the die.", 7 VEE (power) "Negative Supply Voltage.", 8 VCC (power) "Positive Supply Voltage.", 9 ~{Q2} (out) "Inverting Output 2.", 10 Q2 (out) "Noninverting Output 2.", 11 ~{Q1} (out) "Inverting Output 1.", 12 Q1 (out) "Noninverting Output 1.", 13 VCC (power) "Positive Supply Voltage.", 14 VEE (power) "Negative Supply Voltage.", 15 VREF (power) "Reference Voltage. Reference voltage for biasing ac-coupled inputs.", 16 VT "Center Tap. Center tap of 100  ohm input resistor.", 17 EP "No Connect. The metallic back surface of the package is not electrically connected to any part of the circuit. It can be left floating for optimal electrical isolation between the package handle and the substrate of the die. [see datasheet]"

## ADCLK925BCPZ-R7
designator U?
Ultrafast SiGe ECL Clock/Data Buffers, CP-16-3, Pb-Free, 1500 Reel; Product Description: Clock Buffer; +Supply Voltage (V): 3.3; Inputs: 1; Outputs: 2; On-Chip VCO or DCO: No; Max f-out (MHz): 6000; Output Logic: ECL; LVPECL; PECL; DatasheetVersion: Rev. 0; PackageVersion: Jan-2005; PackageReference: CP-16-3; PackageDescription: 16-Lead Lead Frame Chip Scale Package [LFCSP_VQ]; Code_JEDEC: MO-220-VEED-2; ComponentLink1Description: Manufacturer URL; ComponentLink1URL: www.analog.com; ComponentLink2Description: Datasheet; ComponentLink2URL: http://www.analog.com/static/imported-files/data_sheets/ADCLK905_907_925.pdf; ComponentLink3Description: Package Specification; ComponentLink3URL: http://www.analog.com/static/imported-files/packages/PKG_PDF/LFCSP(CP)/CP_16_3.pdf
footprint ADI-CP-16-3_N (QFN, 16-Leads, Body 3x3mm, Pitch 0.5mm, Thermal Pad 1.5x1.5mm, IPC Medium Density)
footprint ADI-CP-16-3_L (QFN, 16-Leads, Body 3x3mm, Pitch 0.5mm, Thermal Pad 1.5x1.5mm, IPC High Density)
footprint ADI-CP-16-3_M (QFN, 16-Leads, Body 3x3mm, Pitch 0.5mm, Thermal Pad 1.5x1.5mm, IPC Low Density)
pins: 1 D (in) "Noninverting Input.", 2 ~{D} (in) "Inverting Input.", 3 NC "No Connect. No physical connection to the die.", 4 NC "No Connect. No physical connection to the die.", 5 NC "No Connect. No physical connection to the die.", 6 NC "No Connect. No physical connection to the die.", 7 VEE (power) "Negative Supply Voltage.", 8 VCC (power) "Positive Supply Voltage.", 9 ~{Q2} (out) "Inverting Output 2.", 10 Q2 (out) "Noninverting Output 2.", 11 ~{Q1} (out) "Inverting Output 1.", 12 Q1 (out) "Noninverting Output 1.", 13 VCC (power) "Positive Supply Voltage.", 14 VEE (power) "Negative Supply Voltage.", 15 VREF (power) "Reference Voltage. Reference voltage for biasing ac-coupled inputs.", 16 VT "Center Tap. Center tap of 100  ohm input resistor.", 17 EP "No Connect. The metallic back surface of the package is not electrically connected to any part of the circuit. It can be left floating for optimal electrical isolation between the package handle and the substrate of the die. [see datasheet]"

## ADCLK925BCPZ-WP
designator U?
Ultrafast SiGe ECL Clock/Data Buffers, CP-16-3, Pb-Free, 50 Tray; Product Description: Clock Buffer; +Supply Voltage (V): 3.3; Inputs: 1; Outputs: 2; On-Chip VCO or DCO: No; Max f-out (MHz): 6000; Output Logic: ECL; LVPECL; PECL; DatasheetVersion: Rev. 0; PackageVersion: Jan-2005; PackageReference: CP-16-3; PackageDescription: 16-Lead Lead Frame Chip Scale Package [LFCSP_VQ]; Code_JEDEC: MO-220-VEED-2; ComponentLink1Description: Manufacturer URL; ComponentLink1URL: www.analog.com; ComponentLink2Description: Datasheet; ComponentLink2URL: http://www.analog.com/static/imported-files/data_sheets/ADCLK905_907_925.pdf; ComponentLink3Description: Package Specification; ComponentLink3URL: http://www.analog.com/static/imported-files/packages/PKG_PDF/LFCSP(CP)/CP_16_3.pdf
footprint ADI-CP-16-3_N (QFN, 16-Leads, Body 3x3mm, Pitch 0.5mm, Thermal Pad 1.5x1.5mm, IPC Medium Density)
footprint ADI-CP-16-3_L (QFN, 16-Leads, Body 3x3mm, Pitch 0.5mm, Thermal Pad 1.5x1.5mm, IPC High Density)
footprint ADI-CP-16-3_M (QFN, 16-Leads, Body 3x3mm, Pitch 0.5mm, Thermal Pad 1.5x1.5mm, IPC Low Density)
pins: 1 D (in) "Noninverting Input.", 2 ~{D} (in) "Inverting Input.", 3 NC "No Connect. No physical connection to the die.", 4 NC "No Connect. No physical connection to the die.", 5 NC "No Connect. No physical connection to the die.", 6 NC "No Connect. No physical connection to the die.", 7 VEE (power) "Negative Supply Voltage.", 8 VCC (power) "Positive Supply Voltage.", 9 ~{Q2} (out) "Inverting Output 2.", 10 Q2 (out) "Noninverting Output 2.", 11 ~{Q1} (out) "Inverting Output 1.", 12 Q1 (out) "Noninverting Output 1.", 13 VCC (power) "Positive Supply Voltage.", 14 VEE (power) "Negative Supply Voltage.", 15 VREF (power) "Reference Voltage. Reference voltage for biasing ac-coupled inputs.", 16 VT "Center Tap. Center tap of 100  ohm input resistor.", 17 EP "No Connect. The metallic back surface of the package is not electrically connected to any part of the circuit. It can be left floating for optimal electrical isolation between the package handle and the substrate of the die. [see datasheet]"

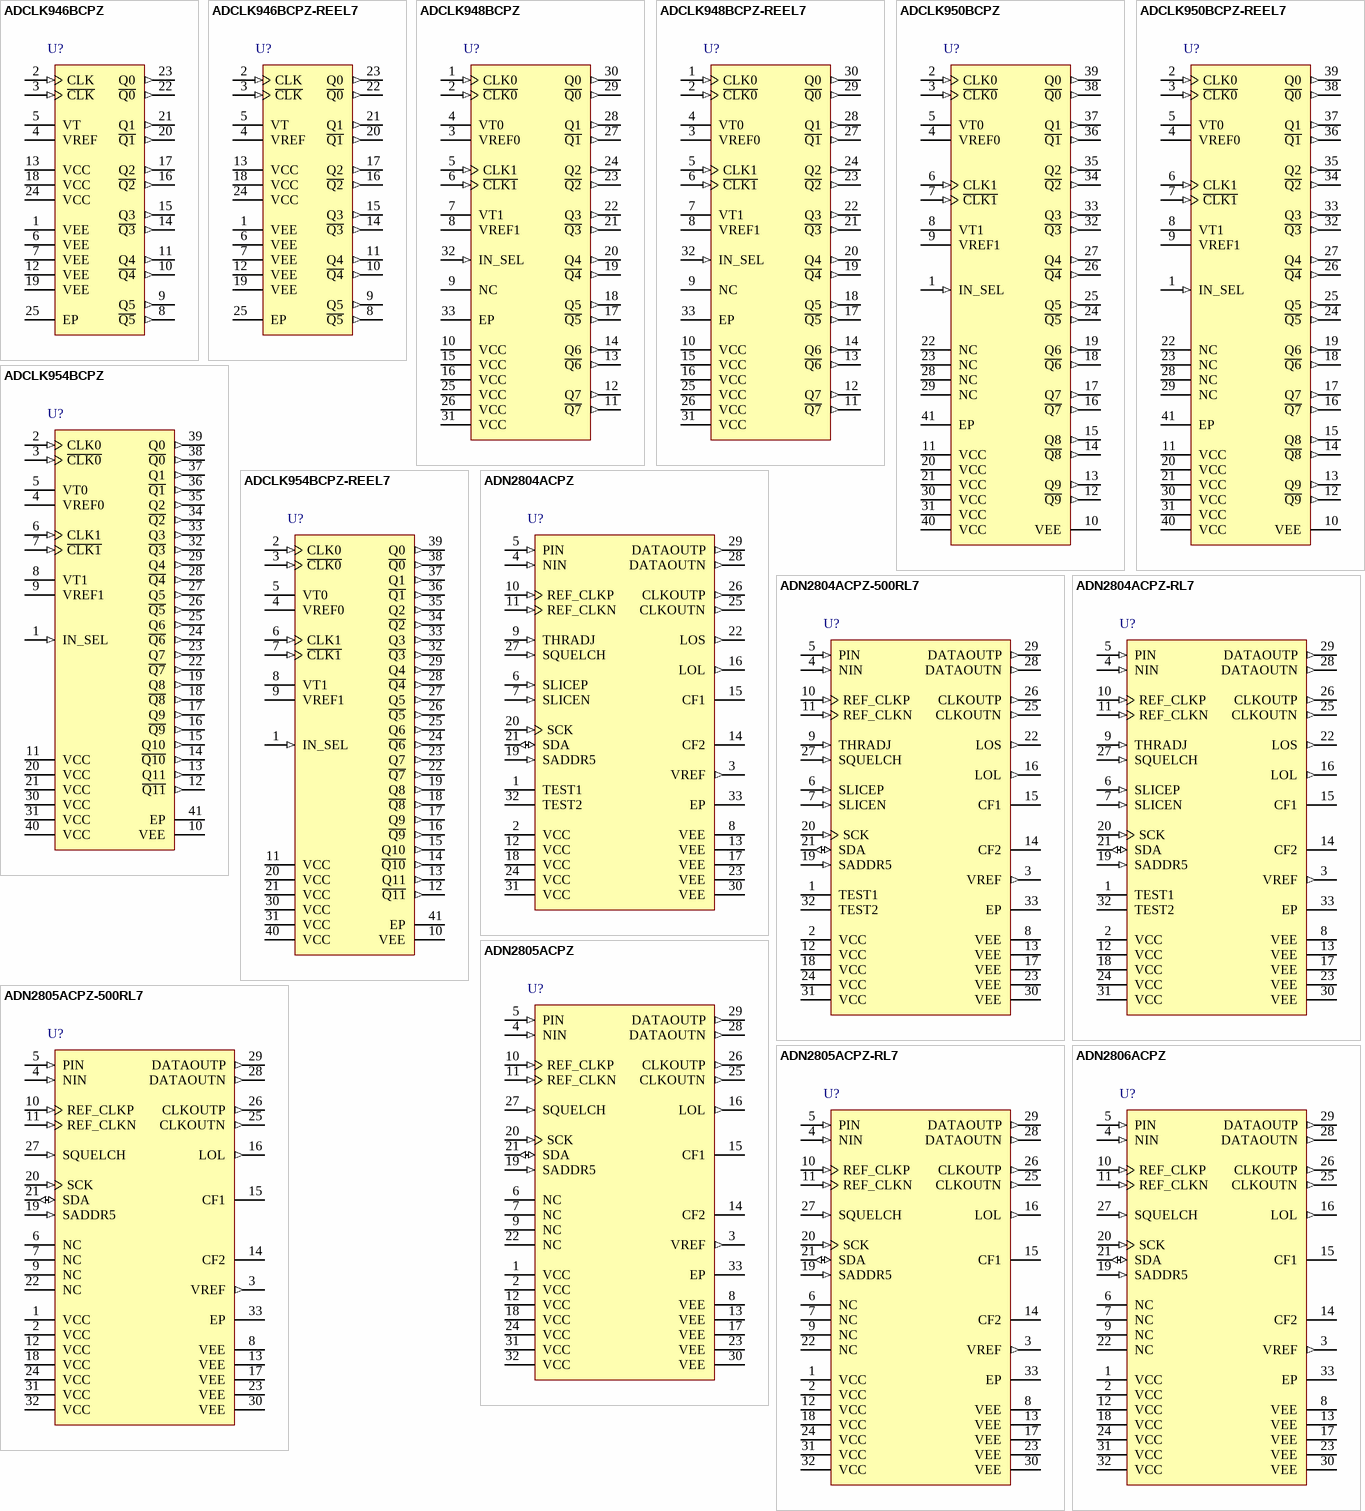
[diagram p12: symbols ADCLK946BCPZ to ADN2806ACPZ]

## ADCLK946BCPZ
designator U?
Six LVPECL Outputs, SiGe Clock Fanout Buffer, CP-24-2, Pb-Free, 490 Tray; +Supply Voltage (V): 3.3; Inputs: 1; Outputs: 6; On-Chip VCO or DCO: No; Max f-out (MHz): 4800; DatasheetVersion: Rev. A; PackageVersion: Jan-2005; PackageReference: CP-24-2; PackageDescription: 24-Lead Lead Frame Chip Scale Package [LFCSP_VQ]; Product Description: Six LVPECL Outputs, SiGe Clock Fanout Buffer; Output Logic: LVPECL; Code_JEDEC: MO-220-VGGD-2; ComponentLink1Description: Manufacturer URL; ComponentLink1URL: www.analog.com; ComponentLink2Description: Datasheet; ComponentLink2URL: http://www.analog.com/static/imported-files/data_sheets/ADCLK946.pdf; ComponentLink3Description: Package Specification; ComponentLink3URL: http://www.analog.com/static/imported-files/packages/588305704543880784658541CP_24_2.pdf
footprint ADI-CP-24-2_N (QFN, 24-Leads, Body 4x4mm, Pitch 0.5mm, Thermal Pad 2.3x2.3mm, IPC Medium Density)
footprint ADI-CP-24-2_L (QFN, 24-Leads, Body 4x4mm, Pitch 0.5mm, Thermal Pad 2.3x2.3mm, IPC High Density)
footprint ADI-CP-24-2_M (QFN, 24-Leads, Body 4x4mm, Pitch 0.5mm, Thermal Pad 2.3x2.3mm, IPC Low Density)
pins: 1 VEE (power) "Negative Supply Pin.", 2 CLK (in) "Differential Input (Positive).", 3 ~{CLK} (in) "Differential Input (Negative).", 4 VREF (power) "Reference Voltage. This pin provides the reference voltage for biasing ac-coupled CLK and C\L\K\ inputs.", 5 VT "Center Tap. This pin provides the center tap of a 100  ohm input resistor for CLK and C\L\K\ inputs.", 6 VEE (power) "Negative Supply Pin.", 7 VEE (power) "Negative Supply Pin.", 8 ~{Q5} (out) "Differential LVPECL Outputs.", 9 Q5 (out) "Differential LVPECL Outputs.", 10 ~{Q4} (out) "Differential LVPECL Outputs.", 11 Q4 (out) "Differential LVPECL Outputs.", 12 VEE (power) "Negative Supply Pin.", 13 VCC (power) "Positive Supply Pin.", 14 ~{Q3} (out) "Differential LVPECL Outputs.", 15 Q3 (out) "Differential LVPECL Outputs.", 16 ~{Q2} (out) "Differential LVPECL Outputs.", 17 Q2 (out) "Differential LVPECL Outputs.", 18 VCC (power) "Positive Supply Pin.", 19 VEE (power) "Negative Supply Pin.", 20 ~{Q1} (out) "Differential LVPECL Outputs.", 21 Q1 (out) "Differential LVPECL Outputs.", 22 ~{Q0} (out) "Differential LVPECL Outputs.", 23 Q0 (out) "Differential LVPECL Outputs.", 24 VCC (power) "Positive Supply Pin.", 25 EP (power) "EPAD must be soldered to VEE."

## ADCLK946BCPZ-REEL7
designator U?
Six LVPECL Outputs, SiGe Clock Fanout Buffer, CP-24-2, Pb-Free, 1500 Reel; +Supply Voltage (V): 3.3; Inputs: 1; Outputs: 6; On-Chip VCO or DCO: No; Max f-out (MHz): 4800; DatasheetVersion: Rev. A; PackageVersion: Jan-2005; PackageReference: CP-24-2; PackageDescription: 24-Lead Lead Frame Chip Scale Package [LFCSP_VQ]; Product Description: Six LVPECL Outputs, SiGe Clock Fanout Buffer; Output Logic: LVPECL; Code_JEDEC: MO-220-VGGD-2; ComponentLink1Description: Manufacturer URL; ComponentLink1URL: www.analog.com; ComponentLink2Description: Datasheet; ComponentLink2URL: http://www.analog.com/static/imported-files/data_sheets/ADCLK946.pdf; ComponentLink3Description: Package Specification; ComponentLink3URL: http://www.analog.com/static/imported-files/packages/588305704543880784658541CP_24_2.pdf
footprint ADI-CP-24-2_N (QFN, 24-Leads, Body 4x4mm, Pitch 0.5mm, Thermal Pad 2.3x2.3mm, IPC Medium Density)
footprint ADI-CP-24-2_L (QFN, 24-Leads, Body 4x4mm, Pitch 0.5mm, Thermal Pad 2.3x2.3mm, IPC High Density)
footprint ADI-CP-24-2_M (QFN, 24-Leads, Body 4x4mm, Pitch 0.5mm, Thermal Pad 2.3x2.3mm, IPC Low Density)
pins: 1 VEE (power) "Negative Supply Pin.", 2 CLK (in) "Differential Input (Positive).", 3 ~{CLK} (in) "Differential Input (Negative).", 4 VREF (power) "Reference Voltage. This pin provides the reference voltage for biasing ac-coupled CLK and C\L\K\ inputs.", 5 VT "Center Tap. This pin provides the center tap of a 100  ohm input resistor for CLK and C\L\K\ inputs.", 6 VEE (power) "Negative Supply Pin.", 7 VEE (power) "Negative Supply Pin.", 8 ~{Q5} (out) "Differential LVPECL Outputs.", 9 Q5 (out) "Differential LVPECL Outputs.", 10 ~{Q4} (out) "Differential LVPECL Outputs.", 11 Q4 (out) "Differential LVPECL Outputs.", 12 VEE (power) "Negative Supply Pin.", 13 VCC (power) "Positive Supply Pin.", 14 ~{Q3} (out) "Differential LVPECL Outputs.", 15 Q3 (out) "Differential LVPECL Outputs.", 16 ~{Q2} (out) "Differential LVPECL Outputs.", 17 Q2 (out) "Differential LVPECL Outputs.", 18 VCC (power) "Positive Supply Pin.", 19 VEE (power) "Negative Supply Pin.", 20 ~{Q1} (out) "Differential LVPECL Outputs.", 21 Q1 (out) "Differential LVPECL Outputs.", 22 ~{Q0} (out) "Differential LVPECL Outputs.", 23 Q0 (out) "Differential LVPECL Outputs.", 24 VCC (power) "Positive Supply Pin.", 25 EP (power) "EPAD must be soldered to VEE."